# EAGLE library part ST-D2 (library trafo-siemens)
TRANSFORMER
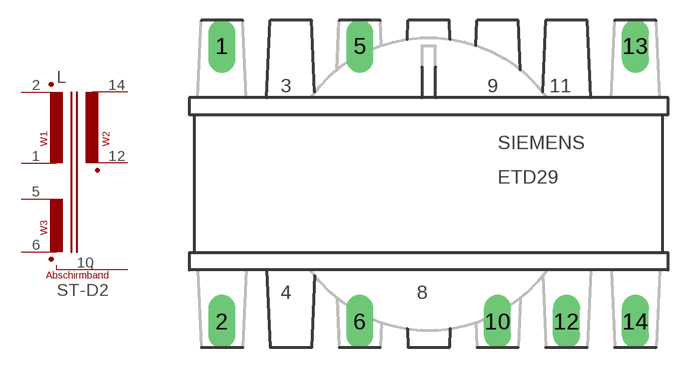
[diagram p3: symbol with the pads of ST-D2; footprint ST-D2]

Designator prefix L

## ST-D2  [ST-D2]
1  1E  pas
2  1A  pas
5  3E  pas
6  3A  pas
10  SCH  pas
12  2A  pas
13  SCH1  pas
14  2E  pas

## Footprint ST-D2 (pad centres in mm)
TRANSFORMER
drill 1.321 long: 1 -15.24,10.16; 2 -15.24,-10.16; 5 -5.08,10.16; 6 -5.08,-10.16; 10 5.08,-10.16; 12 10.16,-10.16; 13 15.24,10.16; 14 15.24,-10.16